# Altium footprint library OKI-78SR-5.1.5-W36-C.PcbLib: 1 footprints
Each footprint in its own frame and in the unit in brackets; x right, y up, seen from the top. Pads: shape width x height; smd on the part's side, far side on the other; paste and mask are expansions set on the pad; w line width, h text height; cw(c..) or ccw(c..) is an arc to the next point about the centre after c.
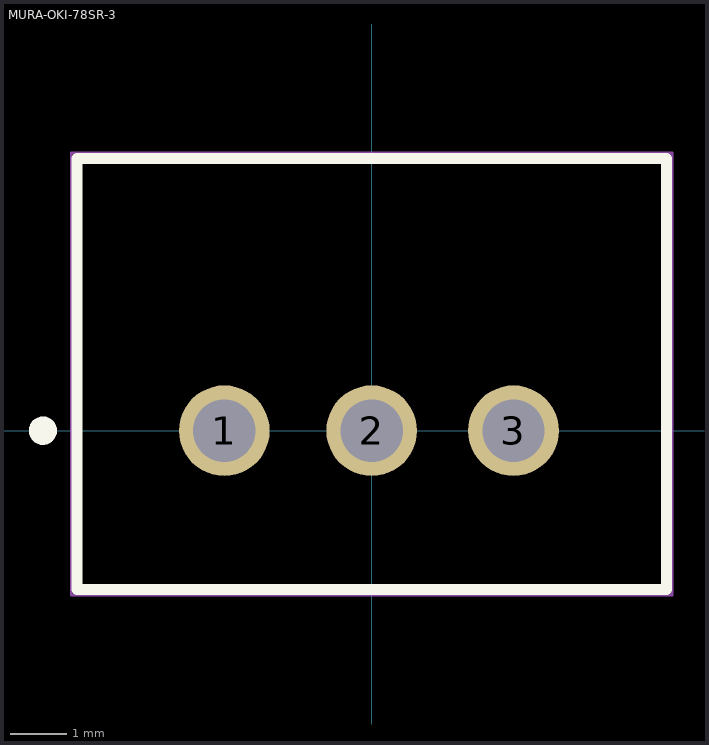
[diagram p0: the footprint, top view; thin cyan lines are the x and y axes]

## MURA-OKI-78SR-3 [mm] "THMT, 3-Leads, Body 10.4x7.6mm"
height 16.5
pads (3):
  round 1.6 hole 1.1: 1(-2.6,0) 2(0,0) 3(2.5,0)
Top Overlay:
  circle w0.25: c-5.8,0 r0.125
  lines w0.2: -5.2,-2.8 5.2,-2.8 5.2,4.8 -5.2,4.8 -5.2,-2.8
Mechanical 13:
  lines w0.1: -5.2,-2.8 -5.2,4.8 5.2,4.8 5.2,-2.8 -5.2,-2.8
Mechanical 15:
  lines w0.05: -5.3,-2.9 -5.3,4.9 5.3,4.9 5.3,-2.9 -5.3,-2.9
  lines w0.1: -0.5,0 0.5,0 ; 0,-0.5 0,0.5
3D body: height 16.5, standoff 0, extent -5.2,-2.8 5.2,4.8